# EAGLE library part WE-RJ45_LAN_10/100_BASET_STD (library Wuerth_Elektronik_eiSos_ v6.8)
WE-RJ45 LAN Transformer 10/100 BaseT - RJ45 connector with integrated transformer common mode choke - 350 µH min.OCL with 8 mA bias - Complies with IEEE 802.3 - Extended temperature range from 0°C to +70°C or -40°C to +85°C available -- ADSL Modem -- Embedded PC -- LAN network applications -- Hub, Router, Switches
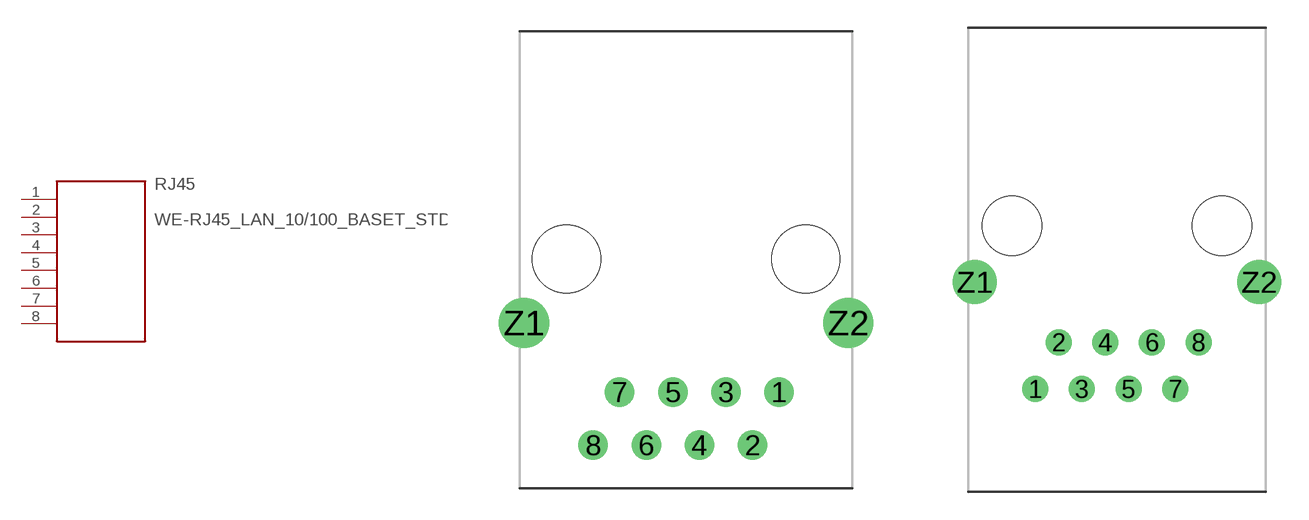
[diagram p90: symbol with the pads of WE-RJ45_LAN_10/100_BASET_7499011001/2; footprints WE-RJ45_LAN_10/100_BASET_7499011001/2, WE-RJ45_LAN_10/100_BASET_7499010001]

Designator prefix RJ45

## WE-RJ45_LAN_10/100_BASET_STD_7499011001  [WE-RJ45_LAN_10/100_BASET_7499011001/2]
1  1  pas
2  2  pas
3  3  pas
4  4  pas
5  5  pas
6  6  pas
7  7  pas
8  8  pas

## WE-RJ45_LAN_10/100_BASET_STD_7499011002  [WE-RJ45_LAN_10/100_BASET_7499011001/2]
Pads as for WE-RJ45_LAN_10/100_BASET_7499011001/2

## WE-RJ45_LAN_10/100_BASET_STD_7499010001  [WE-RJ45_LAN_10/100_BASET_7499010001]
Pads as for WE-RJ45_LAN_10/100_BASET_7499011001/2

## Footprint WE-RJ45_LAN_10/100_BASET_7499011001/2 (pad centres in mm)
WE-RJ45 LAN Transformer 10/100 BaseT
drill 0.9 round: 1 4.445,-6.35; 2 3.175,-8.89; 3 1.905,-6.35; 4 0.635,-8.89; 5 -0.635,-6.35; 6 -1.905,-8.89; 7 -3.175,-6.35; 8 -4.445,-8.89
drill 1.6 round: Z1 -7.745,-3.05; Z2 7.745,-3.05
hole 3.25 at 5.715,0
hole 3.25 at -5.715,0

## Footprint WE-RJ45_LAN_10/100_BASET_7499010001 (pad centres in mm)
WE-RJ45 LAN Transformer 10/100 BaseT
drill 0.9 round: 1 -4.445,-8.89; 2 -3.175,-6.35; 3 -1.905,-8.89; 4 -0.635,-6.35; 5 0.635,-8.89; 6 1.905,-6.35; 7 3.175,-8.89; 8 4.445,-6.35
drill 1.6 round: Z1 -7.745,-3.05; Z2 7.745,-3.05
hole 3.25 at 5.715,0
hole 3.25 at -5.715,0